# Altium integrated library Dallas Peripheral Memory Controller.IntLib: 58 symbols (part 2 of 2)
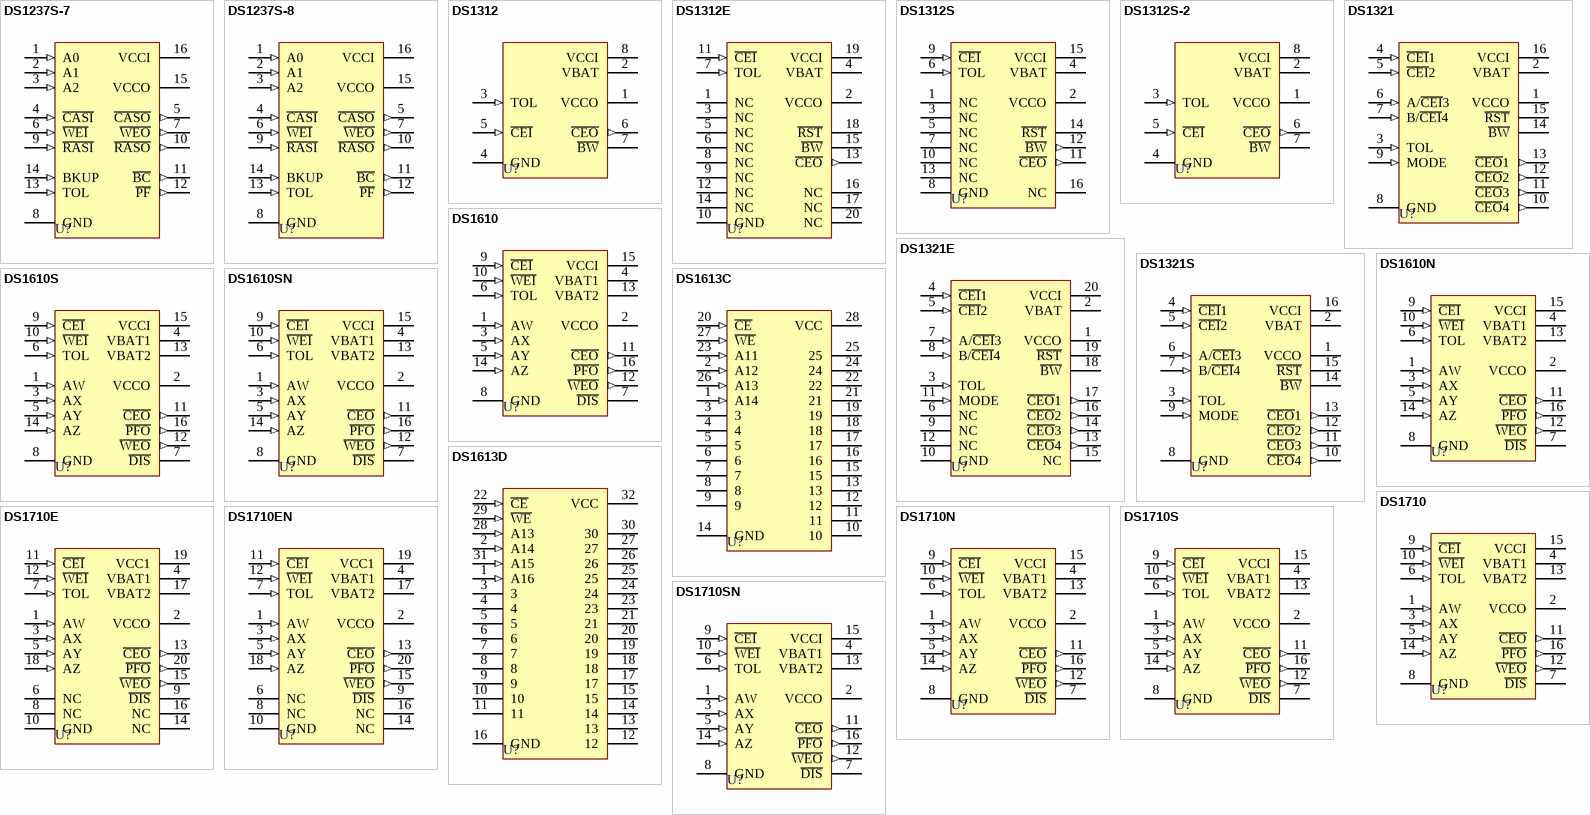
[diagram p2: symbols DS1237S-7 to DS1710SN]

## DS1610S
designator U?
Partitioned Nonvolatile Controller; Published: 13-Oct-2000; LatestRevisionDate: 13-Apr-2006; LatestRevisionNote: IPC-7351 Footprint Added.; DatasheetVersion: 25-Feb-1998; PackageVersion: 1994; PackageReference: SOIC16WA; Publisher: Altium Limited; PackageDescription: 16-Pin Small Outline Integrated Circuit 1.27 mm Pitch; ComponentLink1Description: Manufacturer Link; ComponentLink1URL: http://www.maxim-ic.com/; ComponentLink2Description: Datasheet; ComponentLink2URL: http://pdfserv.maxim-ic.com/en/ds/DS1610.pdf
footprint SOIC16WA_N (SOIC, 16-Leads, Body 10.3x7.5mm, Pitch 1.27mm, IPC Medium Density)
footprint SOIC16WA_L (SOIC, 16-Leads, Body 10.3x7.5mm, Pitch 1.27mm, IPC High Density)
footprint SOIC16WA_M (SOIC, 16-Leads, Body 10.3x7.5mm, Pitch 1.27mm, IPC Low Density)
3D model SOIC16WA (16-Pin Small Outline Integrated Circuit 1.27 mm Pitch)
pins: 1 AW (in), 2 VCCO (power), 3 AX (in), 4 VBAT1 (power), 5 AY (in), 6 TOL (in), 7 ~{DIS}, 8 GND (power), 9 ~{CEI} (in), 10 ~{WEI} (in), 11 ~{CEO} (out), 12 ~{WEO} (out), 13 VBAT2 (power), 14 AZ (in), 15 VCCI (power), 16 ~{PFO} (out)

## DS1610SN
designator U?
Partitioned Nonvolatile Controller; Published: 13-Oct-2000; LatestRevisionDate: 13-Apr-2006; LatestRevisionNote: IPC-7351 Footprint Added.; DatasheetVersion: 13-Jan-1992; PackageVersion: 1994; PackageReference: SOIC16WA; Publisher: Altium Limited; PackageDescription: 16-Pin Small Outline Integrated Circuit 1.27 mm Pitch; ComponentLink1Description: Manufacturer Link; ComponentLink1URL: http://www.maxim-ic.com/; ComponentLink2Description: Datasheet; ComponentLink2URL: http://pdfserv.maxim-ic.com/en/ds/DS1610_C.pdf
footprint SOIC16WA_N (SOIC, 16-Leads, Body 10.3x7.5mm, Pitch 1.27mm, IPC Medium Density)
footprint SOIC16WA_L (SOIC, 16-Leads, Body 10.3x7.5mm, Pitch 1.27mm, IPC High Density)
footprint SOIC16WA_M (SOIC, 16-Leads, Body 10.3x7.5mm, Pitch 1.27mm, IPC Low Density)
3D model SOIC16WA (16-Pin Small Outline Integrated Circuit 1.27 mm Pitch)
pins: 1 AW (in), 2 VCCO (power), 3 AX (in), 4 VBAT1 (power), 5 AY (in), 6 TOL (in), 7 ~{DIS}, 8 GND (power), 9 ~{CEI} (in), 10 ~{WEI} (in), 11 ~{CEO} (out), 12 ~{WEO} (out), 13 VBAT2 (power), 14 AZ (in), 15 VCCI (power), 16 ~{PFO} (out)

## DS1613C
designator U?
Partitionable 256K Smart-Socket; Published: 13-Oct-2000; LatestRevisionDate: 17-Jul-2002; LatestRevisionNote: Re-released for DXP Platform.; DatasheetVersion: 25-Feb-1998; PackageVersion: Feb-1998; PackageReference: ISDIP28B; Publisher: Altium Limited; PackageDescription: DIP; 28 Rectangular Pins; Row Space 15.24 mm; Pitch 2.54 mm; ComponentLink1Description: Manufacturer Link; ComponentLink1URL: http://www.maxim-ic.com/
footprint ISDIP28B (DIP; 28 Rectangular Pins; Row Space 15.24 mm; Pitch 2.54 mm)
pins: 1 A14 (in), 2 A12 (in), 3, 4, 5, 6, 7, 8, 9, 10, 11, 12, 13, 14 GND (power), 15, 16, 17, 18, 19, 20 ~{CE} (in), 21, 22, 23 A11 (in), 24, 25, 26 A13 (in), 27 ~{WE} (in), 28 VCC (power)

## DS1613D
designator U?
Partitionable 1024K Smart-Socket; Published: 13-Oct-2000; LatestRevisionDate: 17-Jul-2002; LatestRevisionNote: Re-released for DXP Platform.; DatasheetVersion: 25-Feb-1998; PackageVersion: Feb-1998; PackageReference: ISDIP32A; Publisher: Altium Limited; PackageDescription: DIP; 32 Rectangular Pins; Row Space 15.24 mm; Pitch 2.54 mm; ComponentLink1Description: Manufacturer Link; ComponentLink1URL: http://www.maxim-ic.com/
footprint ISDIP32A (DIP; 32 Rectangular Pins; Row Space 15.24 mm; Pitch 2.54 mm)
pins: 1 A16 (in), 2 A14 (in), 3, 4, 5, 6, 7, 8, 9, 10, 11, 12, 13, 14, 15, 16 GND (power), 17, 18, 19, 20, 21, 22 ~{CE} (in), 23, 24, 25, 26, 27, 28 A13 (in), 29 ~{WE} (in), 30 (power), 31 A15 (in), 32 VCC (power)

## DS1710
designator U?
Partitioned Nonvolatile Controller; Published: 13-Oct-2000; LatestRevisionDate: 06-Jun-2005; LatestRevisionNote: Stylized 3D Model Added.; DatasheetVersion: 15-Apr-1998; PackageVersion: 1999; PackageReference: DIP16; Publisher: Altium Limited; PackageDescription: DIP; 16 Leads; Row Spacing 7.62 mm; Pitch 2.54 mm; ComponentLink1Description: Manufacturer Link; ComponentLink1URL: http://www.maxim-ic.com/; ComponentLink2Description: Datasheet; ComponentLink2URL: http://pdfserv.maxim-ic.com/en/ds/DS1710.pdf
footprint DIP16 (DIP; 16 Leads; Row Spacing 7.62 mm; Pitch 2.54 mm)
3D model DIP16 (DIP; 16 Leads; Row Spacing 7.62 mm; Pitch 2.54 mm)
pins: 1 AW (in), 2 VCCO (power), 3 AX (in), 4 VBAT1 (power), 5 AY (in), 6 TOL (in), 7 ~{DIS}, 8 GND (power), 9 ~{CEI} (in), 10 ~{WEI} (in), 11 ~{CEO} (out), 12 ~{WEO} (out), 13 VBAT2 (power), 14 AZ (in), 15 VCCI (power), 16 ~{PFO} (out)

## DS1710E
designator U?
Partitioned Nonvolatile Controller; Note: Pin numbers 6, 8, 14 and 16 are Not Connected (NC); Published: 13-Oct-2000; LatestRevisionDate: 06-Jun-2005; LatestRevisionNote: Stylized 3D Model Added.; DatasheetVersion: 15-Apr-1998; PackageReference: TSSOP20; Publisher: Altium Limited; PackageDescription: Shrink Small Outline; 20 Leads; Body Width 4.4 mm; Pitch 0.65 mm; ComponentLink1Description: Manufacturer Link; ComponentLink1URL: http://www.maxim-ic.com/; ComponentLink2Description: Datasheet; ComponentLink2URL: http://pdfserv.maxim-ic.com/en/ds/DS1710.pdf
footprint TSSOP20 (Shrink Small Outline; 20 Leads; Body Width 4.4 mm; Pitch 0.65 mm)
3D model TSSOP20 (Shrink Small Outline; 20 Leads; Body Width 4.4 mm; Pitch 0.65 mm)
pins: 1 AW (in), 2 VCCO (power), 3 AX (in), 4 VBAT1 (power), 5 AY (in), 6 NC, 7 TOL (in), 8 NC, 9 ~{DIS}, 10 GND (power), 11 ~{CEI} (in), 12 ~{WEI} (in), 13 ~{CEO} (out), 14 NC, 15 ~{WEO} (out), 16 NC, 17 VBAT2 (power), 18 AZ (in), 19 VCC1 (power), 20 ~{PFO} (out)

## DS1710EN
designator U?
Partitioned Nonvolatile Controller; Note: Pin numbers 6, 8, 14 and 16 are Not Connected (NC); Published: 13-Oct-2000; LatestRevisionDate: 06-Jun-2005; LatestRevisionNote: Stylized 3D Model Added.; DatasheetVersion: 15-Apr-1998; PackageReference: TSSOP20; Publisher: Altium Limited; PackageDescription: Shrink Small Outline; 20 Leads; Body Width 4.4 mm; Pitch 0.65 mm; ComponentLink1Description: Manufacturer Link; ComponentLink1URL: http://www.maxim-ic.com/; ComponentLink2Description: Datasheet; ComponentLink2URL: http://pdfserv.maxim-ic.com/en/ds/DS1710.pdf
footprint TSSOP20 (Shrink Small Outline; 20 Leads; Body Width 4.4 mm; Pitch 0.65 mm)
3D model TSSOP20 (Shrink Small Outline; 20 Leads; Body Width 4.4 mm; Pitch 0.65 mm)
pins: 1 AW (in), 2 VCCO (power), 3 AX (in), 4 VBAT1 (power), 5 AY (in), 6 NC, 7 TOL (in), 8 NC, 9 ~{DIS}, 10 GND (power), 11 ~{CEI} (in), 12 ~{WEI} (in), 13 ~{CEO} (out), 14 NC, 15 ~{WEO} (out), 16 NC, 17 VBAT2 (power), 18 AZ (in), 19 VCC1 (power), 20 ~{PFO} (out)

## DS1710N
designator U?
Partitioned Nonvolatile Controller; Published: 13-Oct-2000; LatestRevisionDate: 06-Jun-2005; LatestRevisionNote: Stylized 3D Model Added.; DatasheetVersion: 15-Apr-1998; PackageVersion: 1999; PackageReference: DIP16; Publisher: Altium Limited; PackageDescription: DIP; 16 Leads; Row Spacing 7.62 mm; Pitch 2.54 mm; ComponentLink1Description: Manufacturer Link; ComponentLink1URL: http://www.maxim-ic.com/; ComponentLink2Description: Datasheet; ComponentLink2URL: http://pdfserv.maxim-ic.com/en/ds/DS1710.pdf
footprint DIP16 (DIP; 16 Leads; Row Spacing 7.62 mm; Pitch 2.54 mm)
3D model DIP16 (DIP; 16 Leads; Row Spacing 7.62 mm; Pitch 2.54 mm)
pins: 1 AW (in), 2 VCCO (power), 3 AX (in), 4 VBAT1 (power), 5 AY (in), 6 TOL (in), 7 ~{DIS}, 8 GND (power), 9 ~{CEI} (in), 10 ~{WEI} (in), 11 ~{CEO} (out), 12 ~{WEO} (out), 13 VBAT2 (power), 14 AZ (in), 15 VCCI (power), 16 ~{PFO} (out)

## DS1710S
designator U?
Partitioned Nonvolatile Controller; Published: 13-Oct-2000; LatestRevisionDate: 13-Apr-2006; LatestRevisionNote: IPC-7351 Footprint Added.; DatasheetVersion: 15-Apr-1998; PackageVersion: 1994; PackageReference: SOIC16WA; Publisher: Altium Limited; PackageDescription: 16-Pin Small Outline Integrated Circuit 1.27 mm Pitch; ComponentLink1Description: Manufacturer Link; ComponentLink1URL: http://www.maxim-ic.com/; ComponentLink2Description: Datasheet; ComponentLink2URL: http://pdfserv.maxim-ic.com/en/ds/DS1710.pdf
footprint SOIC16WA_N (SOIC, 16-Leads, Body 10.3x7.5mm, Pitch 1.27mm, IPC Medium Density)
footprint SOIC16WA_L (SOIC, 16-Leads, Body 10.3x7.5mm, Pitch 1.27mm, IPC High Density)
footprint SOIC16WA_M (SOIC, 16-Leads, Body 10.3x7.5mm, Pitch 1.27mm, IPC Low Density)
3D model SOIC16WA (16-Pin Small Outline Integrated Circuit 1.27 mm Pitch)
pins: 1 AW (in), 2 VCCO (power), 3 AX (in), 4 VBAT1 (power), 5 AY (in), 6 TOL (in), 7 ~{DIS}, 8 GND (power), 9 ~{CEI} (in), 10 ~{WEI} (in), 11 ~{CEO} (out), 12 ~{WEO} (out), 13 VBAT2 (power), 14 AZ (in), 15 VCCI (power), 16 ~{PFO} (out)

## DS1710SN
designator U?
Partitioned Nonvolatile Controller; Published: 13-Oct-2000; LatestRevisionDate: 13-Apr-2006; LatestRevisionNote: IPC-7351 Footprint Added.; DatasheetVersion: 15-Apr-1998; PackageVersion: 1994; PackageReference: SOIC16WA; Publisher: Altium Limited; PackageDescription: 16-Pin Small Outline Integrated Circuit 1.27 mm Pitch; ComponentLink1Description: Manufacturer Link; ComponentLink1URL: http://www.maxim-ic.com/; ComponentLink2Description: Datasheet; ComponentLink2URL: http://pdfserv.maxim-ic.com/en/ds/DS1710.pdf
footprint SOIC16WA_N (SOIC, 16-Leads, Body 10.3x7.5mm, Pitch 1.27mm, IPC Medium Density)
footprint SOIC16WA_L (SOIC, 16-Leads, Body 10.3x7.5mm, Pitch 1.27mm, IPC High Density)
footprint SOIC16WA_M (SOIC, 16-Leads, Body 10.3x7.5mm, Pitch 1.27mm, IPC Low Density)
3D model SOIC16WA (16-Pin Small Outline Integrated Circuit 1.27 mm Pitch)
pins: 1 AW (in), 2 VCCO (power), 3 AX (in), 4 VBAT1 (power), 5 AY (in), 6 TOL (in), 7 ~{DIS}, 8 GND (power), 9 ~{CEI} (in), 10 ~{WEI} (in), 11 ~{CEO} (out), 12 ~{WEO} (out), 13 VBAT2 (power), 14 AZ (in), 15 VCCI (power), 16 ~{PFO} (out)